# EAGLE library part PI-ZERO (library Custom_Library)
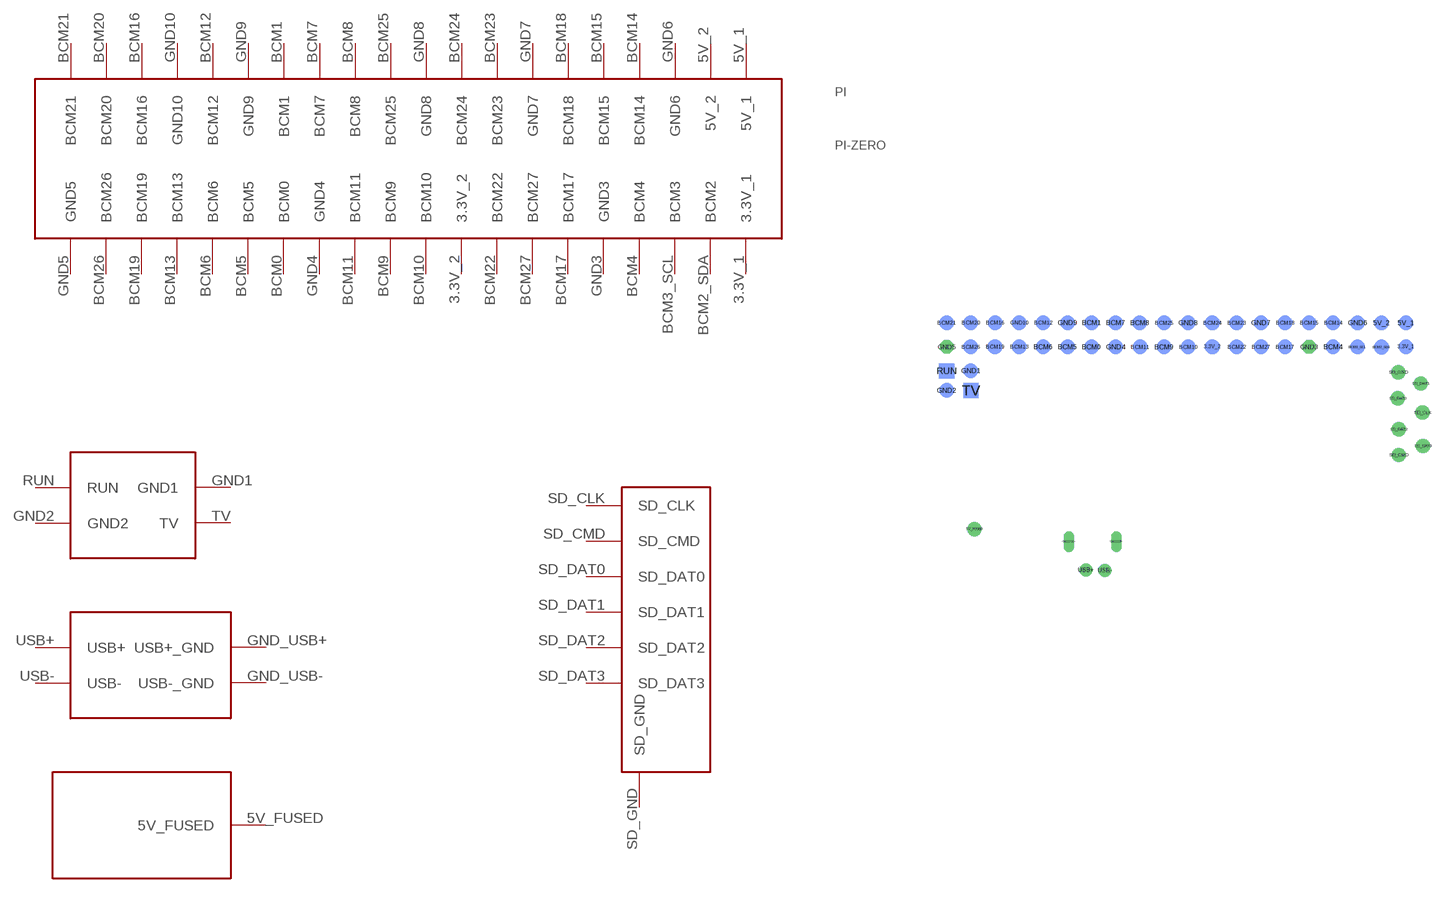
[diagram p23: symbol with the pads of PI-ZERO; footprint PI-ZERO]

Designator prefix PI

## PI-ZERO  [PI-ZERO]
3.3V_1  3.3V_1
3.3V_2  3.3V_2
5V_1  5V_1
5V_2  5V_2
5V_FUSED  5V_FUSED
BCM0  BCM0
BCM1  BCM1
BCM2_SDA  BCM2
BCM3_SCL  BCM3
BCM4  BCM4
BCM5  BCM5
BCM6  BCM6
BCM7  BCM7
BCM8  BCM8
BCM9  BCM9
BCM10  BCM10
BCM11  BCM11
BCM12  BCM12
BCM13  BCM13
BCM14  BCM14
BCM15  BCM15
BCM16  BCM16
BCM17  BCM17
BCM18  BCM18
BCM19  BCM19
BCM20  BCM20
BCM21  BCM21
BCM22  BCM22
BCM23  BCM23
BCM24  BCM24
BCM25  BCM25
BCM26  BCM26
BCM27  BCM27
GND1  GND1
GND2  GND2
GND3  GND3
GND4  GND4
GND5  GND5
GND6  GND6
GND7  GND7
GND8  GND8
GND9  GND9
GND10  GND10
GND_USB+  USB+_GND
GND_USB-  USB-_GND
RUN  RUN
SD_CLK  SD_CLK
SD_CMD  SD_CMD
SD_DAT0  SD_DAT0
SD_DAT1  SD_DAT1
SD_DAT2  SD_DAT2
SD_DAT3  SD_DAT3
SD_GND  SD_GND
TV  TV
USB+  USB+
USB-  USB-

## Footprint PI-ZERO (pad centres in mm)
smd 1.6 x 1.6 bottom: 3.3V_1 56.64,25.45; 3.3V_2 36.3,25.45; 5V_1 56.64,27.99; 5V_2 54.07,27.99; BCM0 23.59,25.46; BCM1 23.61,28.01; BCM2_SDA 54.08,25.44; BCM3_SCL 51.55,25.45; BCM4 48.99,25.47; BCM5 21.07,25.47; BCM6 18.52,25.47; BCM7 26.14,28.01; BCM8 28.68,28; BCM9 31.22,25.45; BCM10 33.76,25.45; BCM11 28.69,25.45; BCM12 18.53,28.01; BCM13 16,25.48; BCM14 49,28; BCM15 46.46,28; BCM16 13.46,28.01; BCM17 43.92,25.46; BCM18 43.94,28; BCM19 13.45,25.48; BCM20 10.91,28.01; BCM21 8.36,28; BCM22 38.86,25.46; BCM23 38.85,27.99; BCM24 36.3,27.99; BCM25 31.22,27.99; BCM26 10.9,25.46; BCM27 41.4,25.46; GND1 10.92,22.96; GND2 8.37,20.89; GND4 26.14,25.46; GND6 51.57,28; GND7 41.4,28; GND8 33.75,28; GND9 21.07,28.01; GND10 16,28.01; RUN 8.37,22.93; TV 10.92,20.87
drill 0.8 pad 1.5: 5V_FUSED 11.3,6.3; SD_CLK 58.4,18.55; SD_CMD 55.9,14.1; SD_DAT0 55.8,20.05; SD_DAT1 58.2,21.6; SD_DAT2 55.9,16.8; SD_DAT3 58.45,15.05; SD_GND 55.85,22.8
drill 0.914 octagon: GND3 46.47,25.46; GND5 8.37,25.46
drill 0.6 pad 0.8 long: GND_USB+ 21.2,5; GND_USB- 26.2,5
drill 0.8 pad 1.35: USB+ 23,2; USB- 25,1.95